# EAGLE library part AITENDO_ENC28J60 (library myparts)
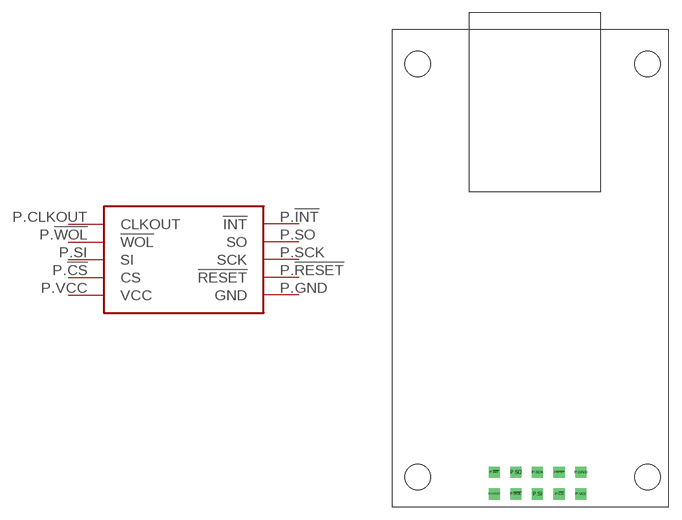
[diagram p13: symbol with the pads of AITENDO_ENC28J60; footprint AITENDO_ENC28J60]

Designator prefix -

## AITENDO_ENC28J60  [AITENDO_ENC28J60]
P.!CS  CS
P.!INT  !INT
P.!RESET  !RESET
P.!WOL  !WOL
P.CLKOUT  CLKOUT
P.GND  GND
P.SCK  SCK
P.SI  SI
P.SO  SO
P.VCC  VCC

## Footprint AITENDO_ENC28J60 (pad centres in mm)
drill 0.8 square: P.!CS 19.62,1.5; P.!INT 12,4.04; P.!RESET 19.62,4.04; P.!WOL 14.54,1.5; P.CLKOUT 12,1.5; P.GND 22.16,4.04; P.SCK 17.08,4.04; P.SI 17.08,1.5; P.SO 14.54,4.04; P.VCC 22.16,1.5
hole 3 at 3,3.5
hole 3 at 30,3.5
hole 3 at 3,52
hole 3 at 30,52